# Altium schematic symbol library ADA4891-4ARUZ.SchLib: 1 symbol
Pins are listed as number, name and electrical type; pins without a type are passive.

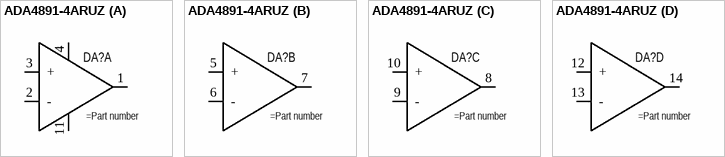
[diagram p0: symbol ADA4891-4ARUZ]

## ADA4891-4ARUZ
designator DA?
Low Cost, Quad, CMOS, High Speed, Rail-to-Rail Amplifiers
part A pins: 1 Out, 2 -, 3 +, 4 Vdd, 11 GND
part B pins: 5 +, 6 -, 7 Out
part C pins: 8 Out, 9 -, 10 +
part D pins: 12 +, 13 -, 14 Out